# EAGLE library part GBA-SLOT-B (library cartreader)
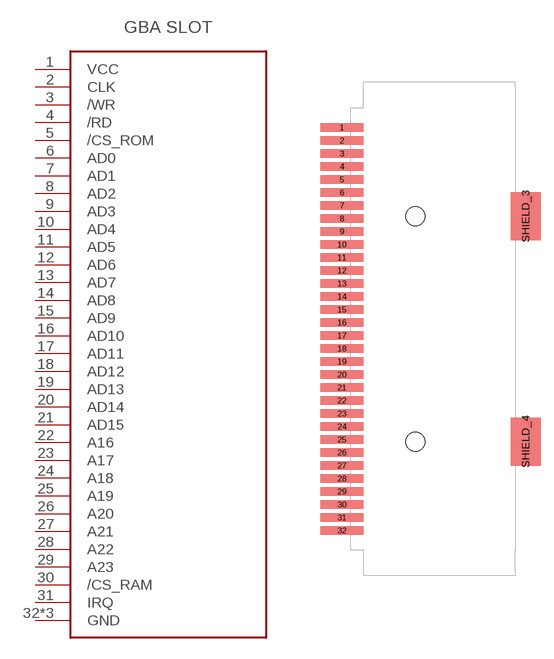
[diagram p2: symbol with the pads of GBA-SLOT-B; footprint GBA-SLOT-B]

Designator prefix -

## GBA-SLOT-BSMD  [GBA-SLOT-B]
1  VCC  sup
2  CLK
3  /WR
4  /RD
5  /CS_ROM
6  AD0
7  AD1
8  AD2
9  AD3
10  AD4
11  AD5
12  AD6
13  AD7
14  AD8
15  AD9
16  AD10
17  AD11
18  AD12
19  AD13
20  AD14
21  AD15
22  A16
23  A17
24  A18
25  A19
26  A20
27  A21
28  A22
29  A23
30  /CS_RAM
31  IRQ
32  GND  sup
SHIELD_3  GND  sup
SHIELD_4  GND  sup

## Footprint GBA-SLOT-B (pad centres in mm)
smd 5 x 1: 1 -5,23.25; 2 -5,21.75; 3 -5,20.25; 4 -5,18.75; 5 -5,17.25; 6 -5,15.75; 7 -5,14.25; 8 -5,12.75; 9 -5,11.25; 10 -5,9.75; 11 -5,8.25; 12 -5,6.75; 13 -5,5.25; 14 -5,3.75; 15 -5,2.25; 16 -5,0.75; 17 -5,-0.75; 18 -5,-2.25; 19 -5,-3.75; 20 -5,-5.25; 21 -5,-6.75; 22 -5,-8.25; 23 -5,-9.75; 24 -5,-11.25; 25 -5,-12.75; 26 -5,-14.25; 27 -5,-15.75; 28 -5,-17.25; 29 -5,-18.75; 30 -5,-20.25; 31 -5,-21.75; 32 -5,-23.25
smd 3.5 x 5.5: SHIELD_3 16.25,13; SHIELD_4 16.25,-13
hole 2.2 at 3.5,13
hole 2.2 at 3.5,-13